# Altium footprint library DFN.PcbLib: 2 footprints
Each footprint in its own frame and in the unit in brackets; x right, y up, seen from the top. Pads: shape width x height; smd on the part's side, far side on the other; paste and mask are expansions set on the pad; w line width, h text height; cw(c..) or ccw(c..) is an arc to the next point about the centre after c.
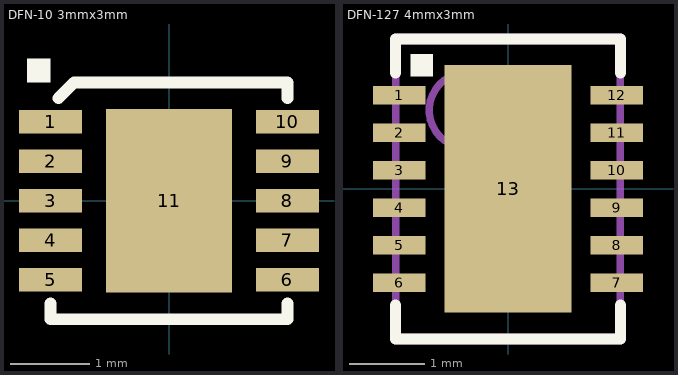
[diagram p0: the footprints below, top view; thin cyan lines are the x and y axes]

## DFN-10 3mmx3mm [mm] "DFN 10-pin 3mmx3mm Linear"
height 0.8
pads (11):
  rect 0.8x0.3 smd paste-0.025 mask+0: 1(-1.5,1) 2(-1.5,0.5) 3(-1.5,0) 4(-1.5,-0.5) 5(-1.5,-1) 6(1.5,-1) 7(1.5,-0.5) 8(1.5,0) 9(1.5,0.5) 10(1.5,1)
  rect 1.6x2.325 smd paste-0.254 mask+0.025: 11(0,0)
Top Overlay:
  rectangle: -1.8,1.5 -1.5,1.8
  lines w0.15: -1.5,-1.3 -1.5,-1.5 1.5,-1.5 1.5,-1.3 ; -1.4,1.3 -1.2,1.5 1.5,1.5 1.5,1.3
3D body: height 0.75, standoff -0.05, extent -1.75,-1.5 1.75,1.5

## DFN-127 4mmx3mm [mm]
height 0.8
pads (13):
  rect 0.7x0.25 smd mask+0.03: 1(-1.45,1.25) 2(-1.45,0.75) 3(-1.45,0.25) 4(-1.45,-0.25) 5(-1.45,-0.75) 6(-1.45,-1.25) 7(1.45,-1.25) 8(1.45,-0.75) 9(1.45,-0.25) 10(1.45,0.25) 11(1.45,0.75) 12(1.45,1.25)
  rect 1.7x3.3 smd paste-0.25 mask+0.03: 13(0,0)
Top Overlay:
  rectangle: -1.3,1.5 -1,1.8
  lines w0.152: -1.5,-1.55 -1.5,-2 0.55,-2 1.5,-2 1.5,-1.55 ; -1.5,1.55 -1.5,2 0.55,2 1.5,2 1.5,1.55
Mechanical 13:
  circle w0.1: c-0.55,1.05 r0.5
  lines w0.1: -1.5,-2 -1.5,2 ; 1.5,-2 1.5,2
  lines w0.152: -1.5,-2 1.5,-2 ; -1.5,2 1.5,2
3D body: height 0.8, standoff 0.05, extent -1.5,-2 1.5,2